# Altium schematic symbol library ABM3B.SchLib: 1 symbol
Pins are listed as number, name and electrical type; pins without a type are passive.

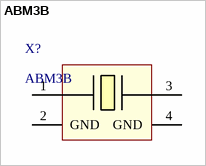
[diagram p0: symbol ABM3B]

## ABM3B
designator X?
pins: 1, 2 GND, 3, 4 GND